# Altium schematic symbol library KA78XXE.SchLib: 1 symbol
Pins are listed as number, name and electrical type; pins without a type are passive.

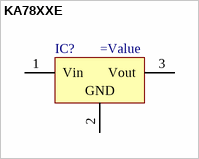
[diagram p0: symbol KA78XXE]

## KA78XXE
designator IC?
=Description
pins: 1 Vin (power), 2 GND (power), 3 Vout (power)